# Altium schematic symbol library ti-import.SchLib: 40 symbols
Pins are listed as number, name and electrical type; pins without a type are passive.

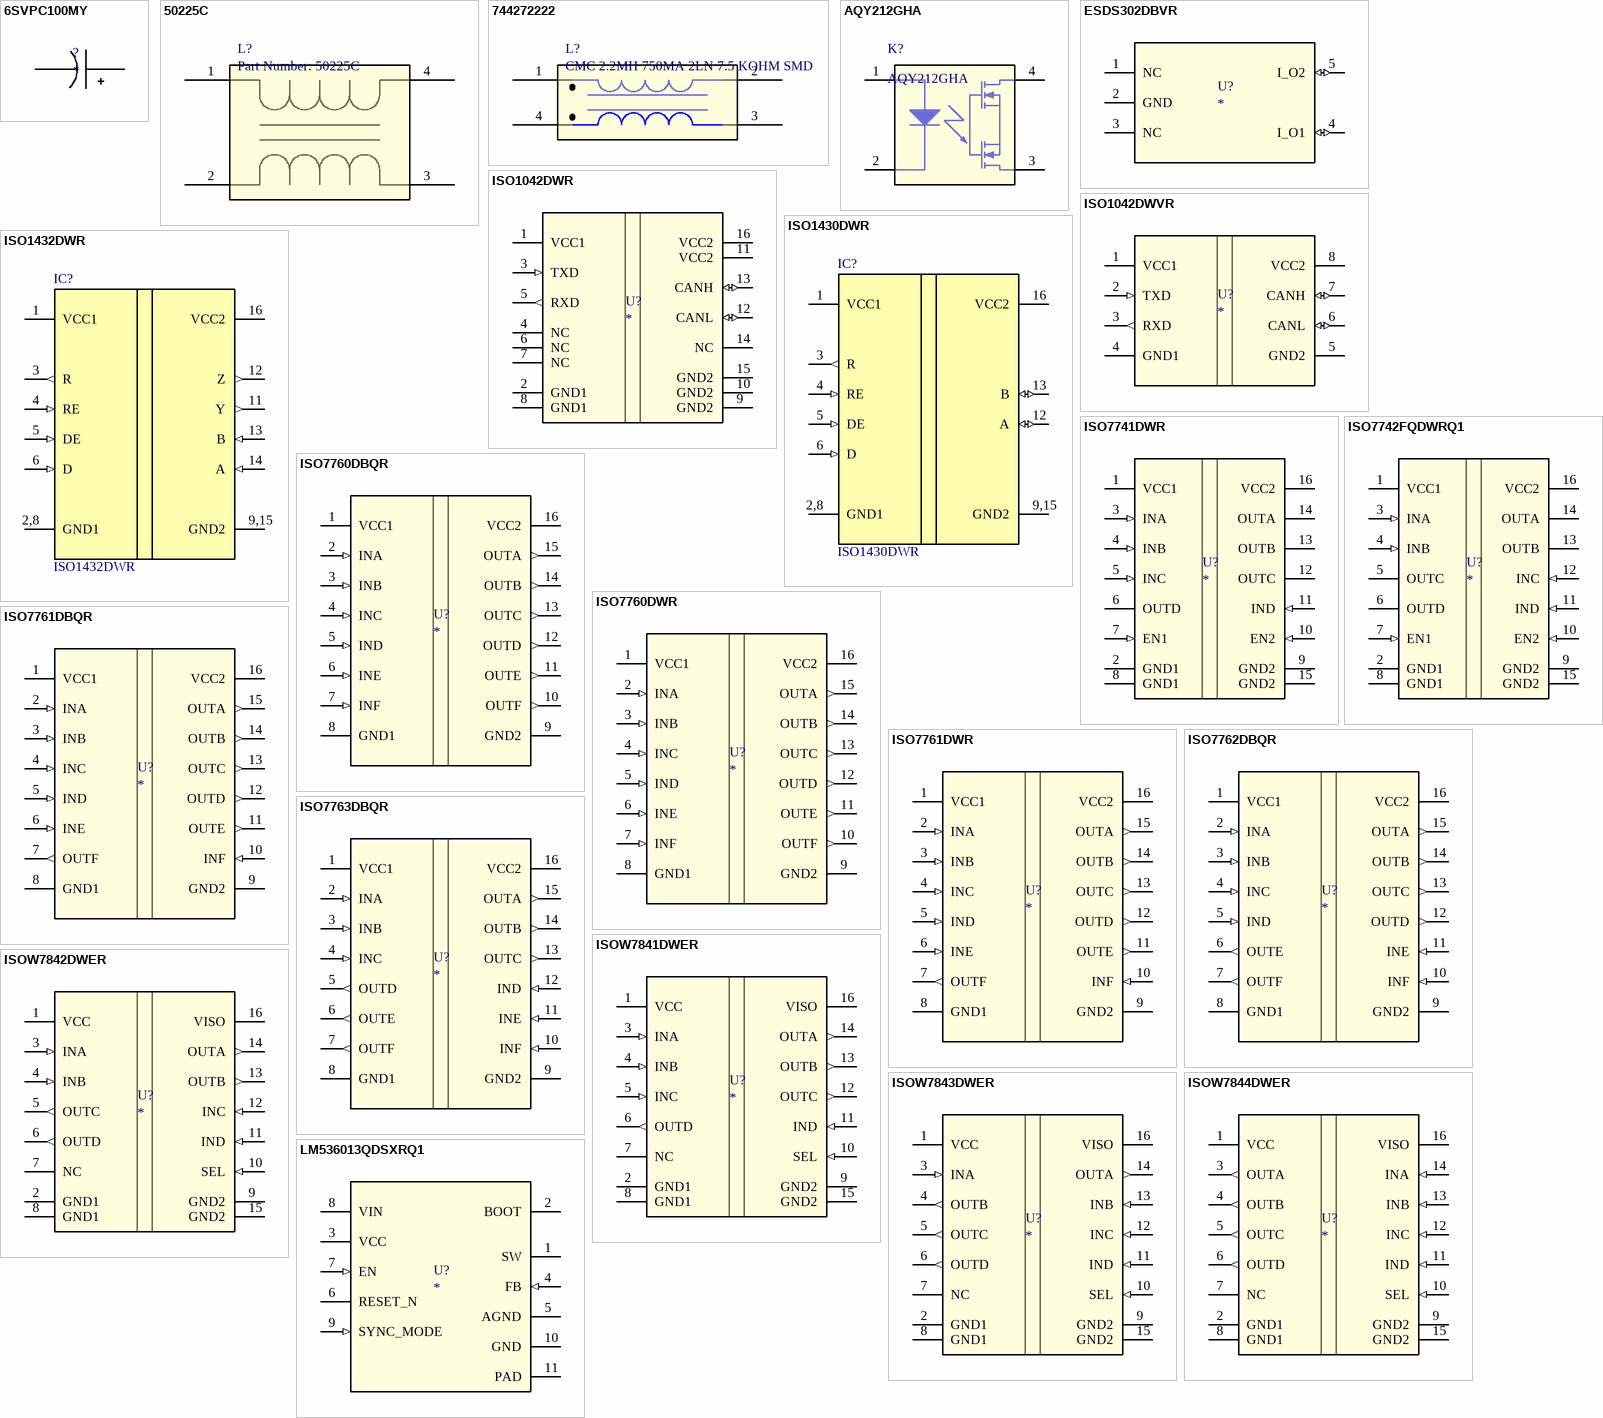
[diagram p0: symbols 6SVPC100MY to LM536013QDSXRQ1]

## 6SVPC100MY
designator ?
Imported; Manufacturer_Part_Number: 6SVPC100MY; Vendor: Panasonic; Manufacturer_Name: Panasonic; RefDes: RefDes; TYPE: TYPE; Value: Value
footprint SM_RADIAL_5MM
pins: 1 +, 2 -

## 50225C
designator L?, comment Part Number: 50225C
2.2mH @ 100kHz 2 Line Common Mode Choke Surface Mount 500mA DCR 400mOhm; Vendor: Murata; Built_By: EMA_UL_Team; Type: DEV; Manufacturer_Part_Number: 50225C; Copyright: Copyright (C) 2018 Accelerated Designs. All rights reserved; RefDes: RefDes; Value: Value
footprint IND_50XXXC
pins: 1, 2, 3, 4

## 744272222
designator L?, comment CMC 2.2MH 750MA 2LN 7.5 KOHM SMD
2.2mH @ 100kHz 2 Line Common Mode Choke Surface Mount 7.5 kOhms @ 4MHz 750mA DCR 300mOhm; Manufacturer_Part_Number: 744272222; Manufacturer: Wurth Electronics Inc.; Vendor: Murata; Built_By: EMA_UL_Team; Type: DEV; Copyright: Copyright (C) 2018 Accelerated Designs. All rights reserved; RefDes: RefDes; Value: Value; SupplierPartNumber: 732-1494-1-ND
footprint WE-SL5 (Wurth WE-SL5 Common Mode Choke)
pins: 1, 2, 3, 4

## AQY212GHA
designator K?
PhotoMOS GU 1 Form A, 60 V Load Voltage, 1.1 A Continuous Load Current, -40 to 85 degC, 4-Pin DIP(SMT), Tube, RoHS; Manufacturer: Panasonic; Pb-Free: True; Load Voltage: 60 V; Continuous Load Current: 1.1 A; On Resistance (Typ): 0.34 Ohm; ComponentLink1Description: Manufacturer URL; ComponentLink2Description: Datasheet; ComponentLink3Description: Package Specification; Series: PhotoMOS GU 1 Form A; ComponentLink3URL: http://www3.panasonic.biz/ac/e_download/control/relay/photomos/catalog/semi_eng_dimensions.pdf?f_cd=401560; DatasheetVersion: 201404-T; ComponentLink1URL: http://www3.panasonic.biz/ac/ae/index.jsp; Mounting Technology: Surface Mount; Packing: Tube; PackageVersion: ASCTB67E, 04/2014; PartNumber: AQY212GHA; PackageDescription: 4-Pin Surface Mount Terminal Package, Body 4.78 x 6.4 mm, Pitch 2.54mm; ComponentLink2URL: http://www3.panasonic.biz/ac/e_download/control/relay/photomos/catalog/semi_eng_gu1a_aqy21_g.pdf; RoHS: True; PackageReference: DIP4(SMT)
footprint PNSC-DIP4(SMT)_V
pins: 1, 2, 3, 4

## ESDS302DBVR
designator U?
Imported; PartNumber: ESDS302DBVR; Manufacturer: Texas Instruments; RefDes: RefDes; TYPE: TYPE; Value: Value
footprint DBV0005A_N
pins: 1 NC, 2 GND (power), 3 NC, 4 I_O1 (io), 5 I_O2 (io)

## ISO1042DWR
designator U?
Imported; PartNumber: ISO1042DWR; Manufacturer: Texas Instruments; RefDes: RefDes; TYPE: TYPE; Value: Value
footprint DW0016B_N
pins: 1 VCC1 (power), 2 GND1 (power), 3 TXD (in), 4 NC, 5 RXD (out), 6 NC, 7 NC, 8 GND1 (power), 9 GND2 (power), 10 GND2 (power), 11 VCC2 (power), 12 CANL (io), 13 CANH (io), 14 NC, 15 GND2 (power), 16 VCC2 (power)

## ISO1042DWVR
designator U?
Imported; Manufacturer: Texas Instruments; PartNumber: ISO1042DWVR; RefDes: RefDes; TYPE: TYPE; Value: Value
footprint DWV0008A
pins: 1 VCC1 (power), 2 TXD (in), 3 RXD (out), 4 GND1 (power), 5 GND2 (power), 6 CANL (io), 7 CANH (io), 8 VCC2 (power)

## ISO1430DWR
designator IC?
5-kVrms isolated RS-485/RS-422 transceiver with robust EMC; Manufacturer: Texas Instruments; PartNumber: ISO1430DWR; RefDes: RefDes; TYPE: TYPE; Value: Value; Part Number: ISO1430DWR
footprint DW0016B_N
pins: 1 VCC1 (power), 2,8 GND1 (power), 3 R (out), 4 RE (in), 5 DE (in), 6 D (in), 7 NC hidden, 9,15 GND2 (power), 10 NC hidden, 11 NC hidden, 12 A (io), 13 B (io), 14 NC hidden, 16 VCC2 (power)

## ISO1432DWR
designator IC?
5-kVrms isolated RS-485/RS-422 transceiver with robust EMC; Manufacturer: Texas Instruments; PartNumber: ISO1432DWR; RefDes: RefDes; TYPE: TYPE; Value: Value; Part Number: ISO1432DWR
footprint DW0016B_N
pins: 1 VCC1 (power), 2,8 GND1 (power), 3 R (out), 4 RE (in), 5 DE (in), 6 D (in), 7 NC hidden, 9,15 GND2 (power), 10 NC hidden, 11 Y (out), 12 Z (out), 13 B (in), 14 A (in), 16 VCC2 (power)

## ISO7741DWR
designator U?
Imported; Manufacturer: Texas Instruments; PartNumber: ISO7741DWR; RefDes: RefDes; TYPE: TYPE; Value: Value
footprint DW0016B_N
pins: 1 VCC1 (power), 2 GND1 (power), 3 INA (in), 4 INB (in), 5 INC (in), 6 OUTD (hiz), 7 EN1 (in), 8 GND1 (power), 9 GND2 (power), 10 EN2 (in), 11 IND (in), 12 OUTC (hiz), 13 OUTB (hiz), 14 OUTA (hiz), 15 GND2 (power), 16 VCC2 (power)

## ISO7742FQDWRQ1
designator U?
Imported; PartNumber: ISO7742FQDWRQ1; Manufacturer: Texas Instruments; RefDes: RefDes; TYPE: TYPE; Value: Value
footprint DW0016B_N
pins: 1 VCC1 (power), 2 GND1 (power), 3 INA (in), 4 INB (in), 5 OUTC (hiz), 6 OUTD (hiz), 7 EN1 (in), 8 GND1 (power), 9 GND2 (power), 10 EN2 (in), 11 IND (in), 12 INC (in), 13 OUTB (hiz), 14 OUTA (hiz), 15 GND2 (power), 16 VCC2 (power)

## ISO7760DBQR
designator U?
Imported; Manufacturer: Texas Instruments; PartNumber: ISO7760DBQR; RefDes: RefDes; TYPE: TYPE; Value: Value
footprint DBQ0016A_N
pins: 1 VCC1 (power), 2 INA (in), 3 INB (in), 4 INC (in), 5 IND (in), 6 INE (in), 7 INF (in), 8 GND1 (power), 9 GND2 (power), 10 OUTF (out), 11 OUTE (out), 12 OUTD (out), 13 OUTC (out), 14 OUTB (out), 15 OUTA (out), 16 VCC2 (power)

## ISO7760DWR
designator U?
Imported; Manufacturer: Texas Instruments; PartNumber: ISO7760DWR; RefDes: RefDes; TYPE: TYPE; Value: Value
footprint DW0016B_N
pins: 1 VCC1 (power), 2 INA (in), 3 INB (in), 4 INC (in), 5 IND (in), 6 INE (in), 7 INF (in), 8 GND1 (power), 9 GND2 (power), 10 OUTF (out), 11 OUTE (out), 12 OUTD (out), 13 OUTC (out), 14 OUTB (out), 15 OUTA (out), 16 VCC2 (power)

## ISO7761DBQR
designator U?
Imported; Manufacturer: Texas Instruments; PartNumber: ISO7760DBQR; RefDes: RefDes; TYPE: TYPE; Value: Value
footprint DBQ0016A_N
pins: 1 VCC1 (power), 2 INA (in), 3 INB (in), 4 INC (in), 5 IND (in), 6 INE (in), 7 OUTF (out), 8 GND1 (power), 9 GND2 (power), 10 INF (in), 11 OUTE (out), 12 OUTD (out), 13 OUTC (out), 14 OUTB (out), 15 OUTA (out), 16 VCC2 (power)

## ISO7761DWR
designator U?
Imported; Manufacturer: Texas Instruments; PartNumber: ISO7761DWR; RefDes: RefDes; TYPE: TYPE; Value: Value
footprint DW0016B_N
pins: 1 VCC1 (power), 2 INA (in), 3 INB (in), 4 INC (in), 5 IND (in), 6 INE (in), 7 OUTF (out), 8 GND1 (power), 9 GND2 (power), 10 INF (in), 11 OUTE (out), 12 OUTD (out), 13 OUTC (out), 14 OUTB (out), 15 OUTA (out), 16 VCC2 (power)

## ISO7762DBQR
designator U?
Imported; Manufacturer: Texas Instruments; PartNumber: ISO7760DBQR; RefDes: RefDes; TYPE: TYPE; Value: Value
footprint DBQ0016A_N
pins: 1 VCC1 (power), 2 INA (in), 3 INB (in), 4 INC (in), 5 IND (in), 6 OUTE (out), 7 OUTF (out), 8 GND1 (power), 9 GND2 (power), 10 INF (in), 11 INE (in), 12 OUTD (out), 13 OUTC (out), 14 OUTB (out), 15 OUTA (out), 16 VCC2 (power)

## ISO7763DBQR
designator U?
Imported; Manufacturer: Texas Instruments; PartNumber: ISO7760DBQR; RefDes: RefDes; TYPE: TYPE; Value: Value
footprint DBQ0016A_N
pins: 1 VCC1 (power), 2 INA (in), 3 INB (in), 4 INC (in), 5 OUTD (out), 6 OUTE (out), 7 OUTF (out), 8 GND1 (power), 9 GND2 (power), 10 INF (in), 11 INE (in), 12 IND (in), 13 OUTC (out), 14 OUTB (out), 15 OUTA (out), 16 VCC2 (power)

## ISOW7841DWER
designator U?
Imported; Manufacturer: Texas Instruments; PartNumber: ISOW7841DWER; RefDes: RefDes; TYPE: TYPE; Value: Value
footprint DWE0016A
pins: 1 VCC (power), 2 GND1 (power), 3 INA (in), 4 INB (in), 5 INC (in), 6 OUTD (out), 7 NC, 8 GND1 (power), 9 GND2 (power), 10 SEL (in), 11 IND (in), 12 OUTC (out), 13 OUTB (out), 14 OUTA (out), 15 GND2 (power), 16 VISO (power)

## ISOW7842DWER
designator U?
Imported; PartNumber: ISOW7842DWER; Manufacturer: Texas Instruments; RefDes: RefDes; TYPE: TYPE; Value: Value
footprint DWE0016A
pins: 1 VCC (power), 2 GND1 (power), 3 INA (in), 4 INB (in), 5 OUTC (out), 6 OUTD (out), 7 NC, 8 GND1 (power), 9 GND2 (power), 10 SEL (in), 11 IND (in), 12 INC (in), 13 OUTB (out), 14 OUTA (out), 15 GND2 (power), 16 VISO (power)

## ISOW7843DWER
designator U?
Imported; Manufacturer: Texas Instruments; PartNumber: ISOW7843DWER; RefDes: RefDes; TYPE: TYPE; Value: Value
footprint DWE0016A
pins: 1 VCC (power), 2 GND1 (power), 3 INA (in), 4 OUTB (out), 5 OUTC (out), 6 OUTD (out), 7 NC, 8 GND1 (power), 9 GND2 (power), 10 SEL (in), 11 IND (in), 12 INC (in), 13 INB (in), 14 OUTA (out), 15 GND2 (power), 16 VISO (power)

## ISOW7844DWER
designator U?
Imported; Manufacturer: Texas Instruments; PartNumber: ISOW7844DWER; RefDes: RefDes; TYPE: TYPE; Value: Value
footprint DWE0016A
pins: 1 VCC (power), 2 GND1 (power), 3 OUTA (out), 4 OUTB (out), 5 OUTC (out), 6 OUTD (out), 7 NC, 8 GND1 (power), 9 GND2 (power), 10 SEL (in), 11 IND (in), 12 INC (in), 13 INB (in), 14 INA (in), 15 GND2 (power), 16 VISO (power)

## LM536013QDSXRQ1
designator U?
Imported; PartNumber: LM536013QDSXRQ1; Manufacturer: Texas Instruments; CompType: IC; PIN_COUNT: 11; Application_BuildNumber: *; PackageReference: DSX0010A; MountType: SMT; RoHS: Y; RefDes: RefDes; TYPE: TYPE; Value: Value; Manufacturer_Part_Number: LM536013QDSXRQ1; Manufacturer_Name: Texas Instruments
footprint DSX0010A
pins: 1 SW (power), 2 BOOT (power), 3 VCC (power), 4 FB (in), 5 AGND (power), 6 RESET_N (oc), 7 EN (in), 8 VIN (power), 9 SYNC_MODE (in), 10 GND (power), 11 PAD (power)

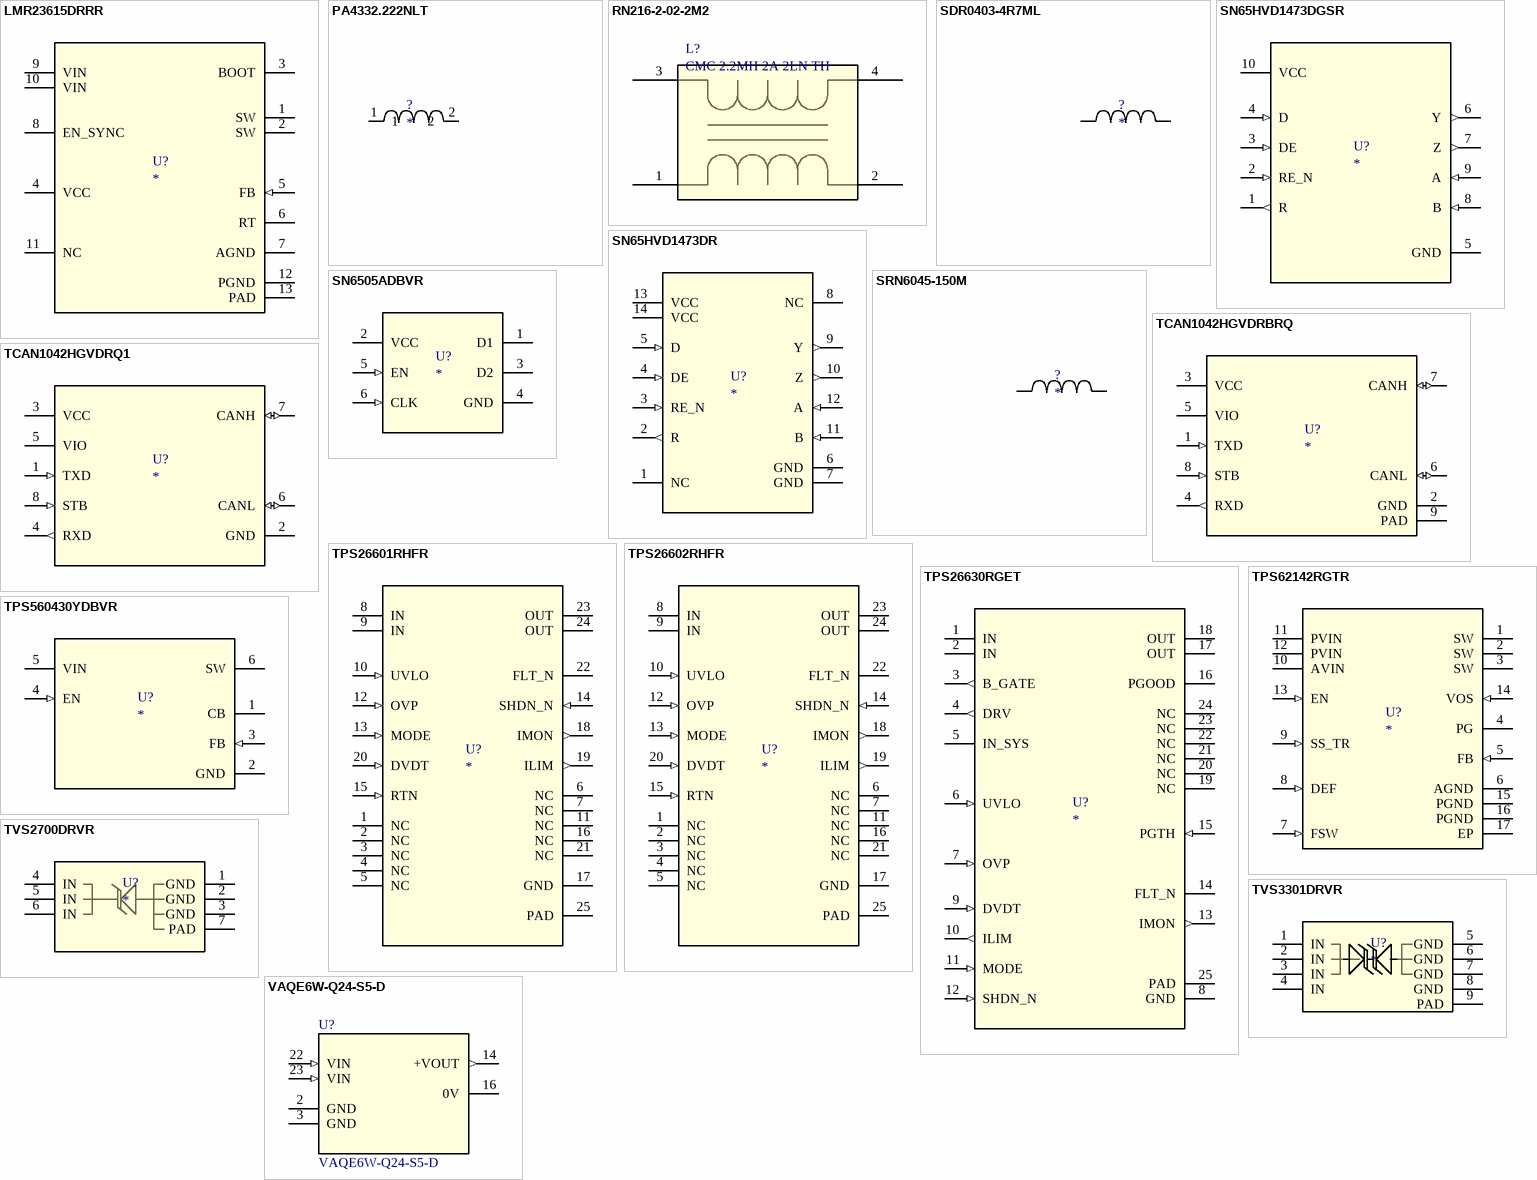
[diagram p1: symbols LMR23615DRRR to VAQE6W-Q24-S5-D]

## LMR23615DRRR
designator U?
Imported; PartNumber: LMR23615DRRR; Manufacturer: Texas Instruments; RefDes: RefDes; TYPE: TYPE; Value: Value; Manufacturer_Part_Number: LMR23615DRRR; Manufacturer_Name: Texas Instruments
footprint DRR0012D
pins: 1 SW (power), 2 SW (power), 3 BOOT (power), 4 VCC (power), 5 FB (in), 6 RT, 7 AGND (power), 8 EN_SYNC (power), 9 VIN (power), 10 VIN (power), 11 NC (power), 12 PGND (power), 13 PAD (power)

## PA4332.222NLT
designator ?
Imported; Manufacturer_Part_Number: PA4332.222NLT; Vendor: Pulse Engineering; RefDes: RefDes; TYPE: TYPE; Value: Value
footprint PA4332
pins: 1, 2

## RN216-2-02-2M2
designator L?, comment CMC 2.2MH 2A 2LN TH
2.2mH @ 10kHz 2 Line Common Mode Choke Through Hole 2A DCR 66mOhm (Typ); Manufacturer_Part_Number: 50225C; Vendor: Murata; Built_By: EMA_UL_Team; Type: DEV; Copyright: Copyright (C) 2018 Accelerated Designs. All rights reserved; RefDes: RefDes; Value: Value
footprint RN216 (Footprint not found)
pins: 1, 2, 3, 4

## SDR0403-4R7ML
designator ?
Imported; Manufacturer_Part_Number: SDR0403-4R7ML; Vendor: Bourns; Manufacturer_Name: Bourns; RefDes: RefDes; TYPE: TYPE; Value: Value
footprint SDR0403
pins: 1, 2

## SN65HVD1473DGSR
designator U?
Imported; PartNumber: SN65HVD1473DGSR; Alternate_PartNumber: SN65HVD1473DGS; Manufacturer: Texas Instruments; CompType: IC; PIN_COUNT: 10; Application_BuildNumber: *; PackageReference: DGS0010A; MountType: SMT; RoHS: Y; RefDes: RefDes; TYPE: TYPE; Value: Value
footprint DGS0010A_N
pins: 1 R (out), 2 RE_N (in), 3 DE (in), 4 D (in), 5 GND (power), 6 Y (out), 7 Z (out), 8 B (in), 9 A (in), 10 VCC (power)

## SN65HVD1473DR
designator U?
Imported; PartNumber: SN65HVD1473DR; Alternate_PartNumber: SN65HVD1473D; Manufacturer: Texas Instruments; CompType: IC; PIN_COUNT: 14; Application_BuildNumber: *; PackageReference: D0014A; MountType: SMT; RoHS: Y; RefDes: RefDes; TYPE: TYPE; Value: Value
footprint D0014A_N
pins: 1 NC, 2 R (out), 3 RE_N (in), 4 DE (in), 5 D (in), 6 GND (power), 7 GND (power), 8 NC, 9 Y (out), 10 Z (out), 11 B (in), 12 A (in), 13 VCC (power), 14 VCC (power)

## SN6505ADBVR
designator U?
Imported; PartNumber: SN6505ADBVR; Alternate_PartNumber: SN6505ADBVT; Manufacturer: Texas Instruments; CompType: IC; PIN_COUNT: 6; Application_BuildNumber: *; PackageReference: DBV0006A; MountType: SMT; RefDes: RefDes; TYPE: TYPE; Value: Value
footprint DBV0006A_N
pins: 1 D1 (oc), 2 VCC (power), 3 D2 (oc), 4 GND (power), 5 EN (in), 6 CLK (in)

## SRN6045-150M
designator ?
Imported; Manufacturer_Part_Number: SRN6045-150M; Vendor: Bourns; Manufacturer_Name: Bourns; RefDes: RefDes; TYPE: TYPE; Value: Value
footprint SRN6045
pins: 1, 2

## TCAN1042HGVDRBRQ
designator U?
Imported; PartNumber: TCAN1042HGVDRBRQ1; Manufacturer: Texas Instruments; RefDes: RefDes; TYPE: TYPE; Value: Value
footprint DRB0008F
pins: 1 TXD (in), 2 GND (power), 3 VCC (power), 4 RXD (out), 5 VIO (power), 6 CANL (io), 7 CANH (io), 8 STB (in), 9 PAD (power)

## TCAN1042HGVDRQ1
designator U?
Imported; PartNumber: TCAN1042HGVDQ1; Manufacturer: Texas Instruments; RefDes: RefDes; TYPE: TYPE; Value: Value
footprint D0008A_N
pins: 1 TXD (in), 2 GND (power), 3 VCC (power), 4 RXD (out), 5 VIO (power), 6 CANL (io), 7 CANH (io), 8 STB (in)

## TPS26601RHFR
designator U?
Imported; PartNumber: TPS26601RHFR; Manufacturer: Texas Instruments; RefDes: RefDes; TYPE: TYPE; Value: Value
footprint RHF0024A
pins: 1 NC, 2 NC, 3 NC, 4 NC, 5 NC, 6 NC, 7 NC, 8 IN (power), 9 IN (power), 10 UVLO (in), 11 NC, 12 OVP (in), 13 MODE (in), 14 SHDN_N (in), 15 RTN (in), 16 NC, 17 GND (power), 18 IMON (out), 19 ILIM (out), 20 DVDT (in), 21 NC, 22 FLT_N (oc), 23 OUT (power), 24 OUT (power), 25 PAD (power)

## TPS26602RHFR
designator U?
37V Clamped input protection; PartNumber: TPS26602RHFR; Manufacturer: Texas Instruments; RefDes: RefDes; TYPE: TYPE; Value: Value
footprint RHF0024A
pins: 1 NC, 2 NC, 3 NC, 4 NC, 5 NC, 6 NC, 7 NC, 8 IN (power), 9 IN (power), 10 UVLO (in), 11 NC, 12 OVP (in), 13 MODE (in), 14 SHDN_N (in), 15 RTN (in), 16 NC, 17 GND (power), 18 IMON (out), 19 ILIM (out), 20 DVDT (in), 21 NC, 22 FLT_N (oc), 23 OUT (power), 24 OUT (power), 25 PAD (power)

## TPS26630RGET
designator U?
Imported; Manufacturer: Texas Instruments; PartNumber: TPS26630RGER; RefDes: RefDes; TYPE: TYPE; Value: Value
footprint RGE0024H
pins: 1 IN (power), 2 IN (power), 3 B_GATE (out), 4 DRV (out), 5 IN_SYS (power), 6 UVLO (in), 7 OVP (in), 8 GND (power), 9 DVDT (in), 10 ILIM (out), 11 MODE (in), 12 SHDN_N (in), 13 IMON (out), 14 FLT_N (oc), 15 PGTH (in), 16 PGOOD (oc), 17 OUT (power), 18 OUT (power), 19 NC, 20 NC, 21 NC, 22 NC, 23 NC, 24 NC, 25 PAD (power)

## TPS62142RGTR
designator U?
Imported; PartNumber: TPS62142RGTR; Manufacturer: Texas Instruments; RefDes: RefDes; TYPE: TYPE; Value: Value
footprint RGT0016C
pins: 1 SW (power), 2 SW (power), 3 SW (power), 4 PG (oc), 5 FB (in), 6 AGND (power), 7 FSW (in), 8 DEF (in), 9 SS_TR (in), 10 AVIN (power), 11 PVIN (power), 12 PVIN (power), 13 EN (in), 14 VOS (in), 15 PGND (power), 16 PGND (power), 17 EP (power)

## TPS560430YDBVR
designator U?
Imported; PartNumber: TPS560430YDBVR; Manufacturer: Texas Instruments; RefDes: RefDes; TYPE: TYPE; Value: Value
footprint DBV0006A_N
pins: 1 CB (power), 2 GND (power), 3 FB (in), 4 EN (in), 5 VIN (power), 6 SW (power)

## TVS2700DRVR
designator U?
Imported; Manufacturer: Texas Instruments; PartNumber: TVS2700DRVR; RefDes: RefDes; TYPE: TYPE; Value: Value
footprint DRV0006A
pins: 1 GND, 2 GND, 3 GND, 4 IN, 5 IN, 6 IN, 7 PAD

## TVS3301DRVR
designator U?
TVS3301 33-V Bidirectional Flat-Clamp Surge Protection Device; Manufacturer: Texas Instruments; PartNumber: TVS3301DRBR; RefDes: RefDes; TYPE: TYPE; Value: Value
footprint DRB0008F
pins: 1 IN, 2 IN, 3 IN, 4 IN, 5 GND, 6 GND, 7 GND, 8 GND, 9 PAD

## VAQE6W-Q24-S5-D
designator U?
DC DC CONVERTER 5V 6W; Input: 9-36V; Output: 5V 1.2A; Power: 6W; PartNumber: VAQE6W-Q24-S5-D
footprint VAQE6W-Q24-S5-D (Isolated Module DC DC Converter 1 Output 5V 1.2A 9V - 36V Input)
pins: 2 GND (power), 3 GND (power), 14 +VOUT (out), 16 0V (power), 22 VIN (in), 23 VIN (in)